# Altium schematic symbol library mounting_holes.SchLib: 2 symbols
Pins are listed as number, name and electrical type; pins without a type are passive.

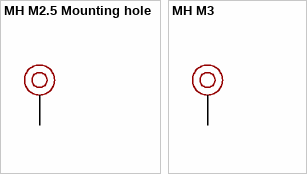
[diagram p0: symbols MH M2.5 Mounting hole to MH M3]

## MH M2.5 Mounting hole
designator MH?, comment M2.5  (value not drawn)  (no BOM)
Mounting Hole M2.5 for mPCIe
footprint MH mPCIe M2.5 (M2.5 mounting hole for mPCIe boards)
pins: 1

## MH M3
designator MH?, comment M3  (value not drawn)  (no BOM)
footprint MH Cubesat M3
pins: 1